# EAGLE library part 65100516121 (library Wurth_Elektronik_Electromechanic_Input-Output_Connectors_rev15c)
WR-COM SMT Horizontal 5 Contacts Mini USB Typ B=>Code : Con_I-O_COM_MiniUSB_65100516121 <http://katalog.we-online.de/media/images/eican/Con_I-O_COM_MiniUSB_65100516121_pf2.jpg> Details see: http://katalog.we-online.de/en/em/651_005_161_21 Created 2014-07-09, Karrer Zheng 2014 (C) Würth Elektronik
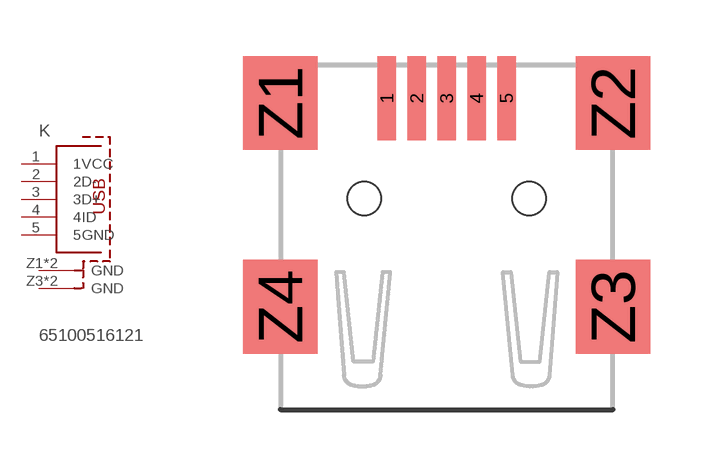
[diagram p72: symbol with the pads of 65100516121; footprint 65100516121]

Designator prefix K

## 65100516121  [65100516121]
1  1VCC  pas
2  2D-  pas
3  3D+  pas
4  4ID  pas
5  5GND  pas
Z1  GND
Z2  GND
Z3  GND
Z4  GND

## Footprint 65100516121 (pad centres in mm)
WR-COM SMT Horizontal 5 Contacts Mini USB Typ B
smd 0.5 x 2.25: 1 -1.6,5.685; 2 -0.8,5.685; 3 0,5.685; 4 0.8,5.685; 5 1.6,5.685
smd 2 x 2.5: Z1 -4.45,5.56; Z2 4.45,5.56; Z3 4.45,0.11; Z4 -4.45,0.11
hole 0.9 at -2.2,3.01
hole 0.9 at 2.2,3.01